# Altium footprint library TerminalBlock_TE-Connectivity.PcbLib: 11 footprints
Each footprint in its own frame and in the unit in brackets; x right, y up, seen from the top. Pads: shape width x height; smd on the part's side, far side on the other; paste and mask are expansions set on the pad; w line width, h text height; cw(c..) or ccw(c..) is an arc to the next point about the centre after c.
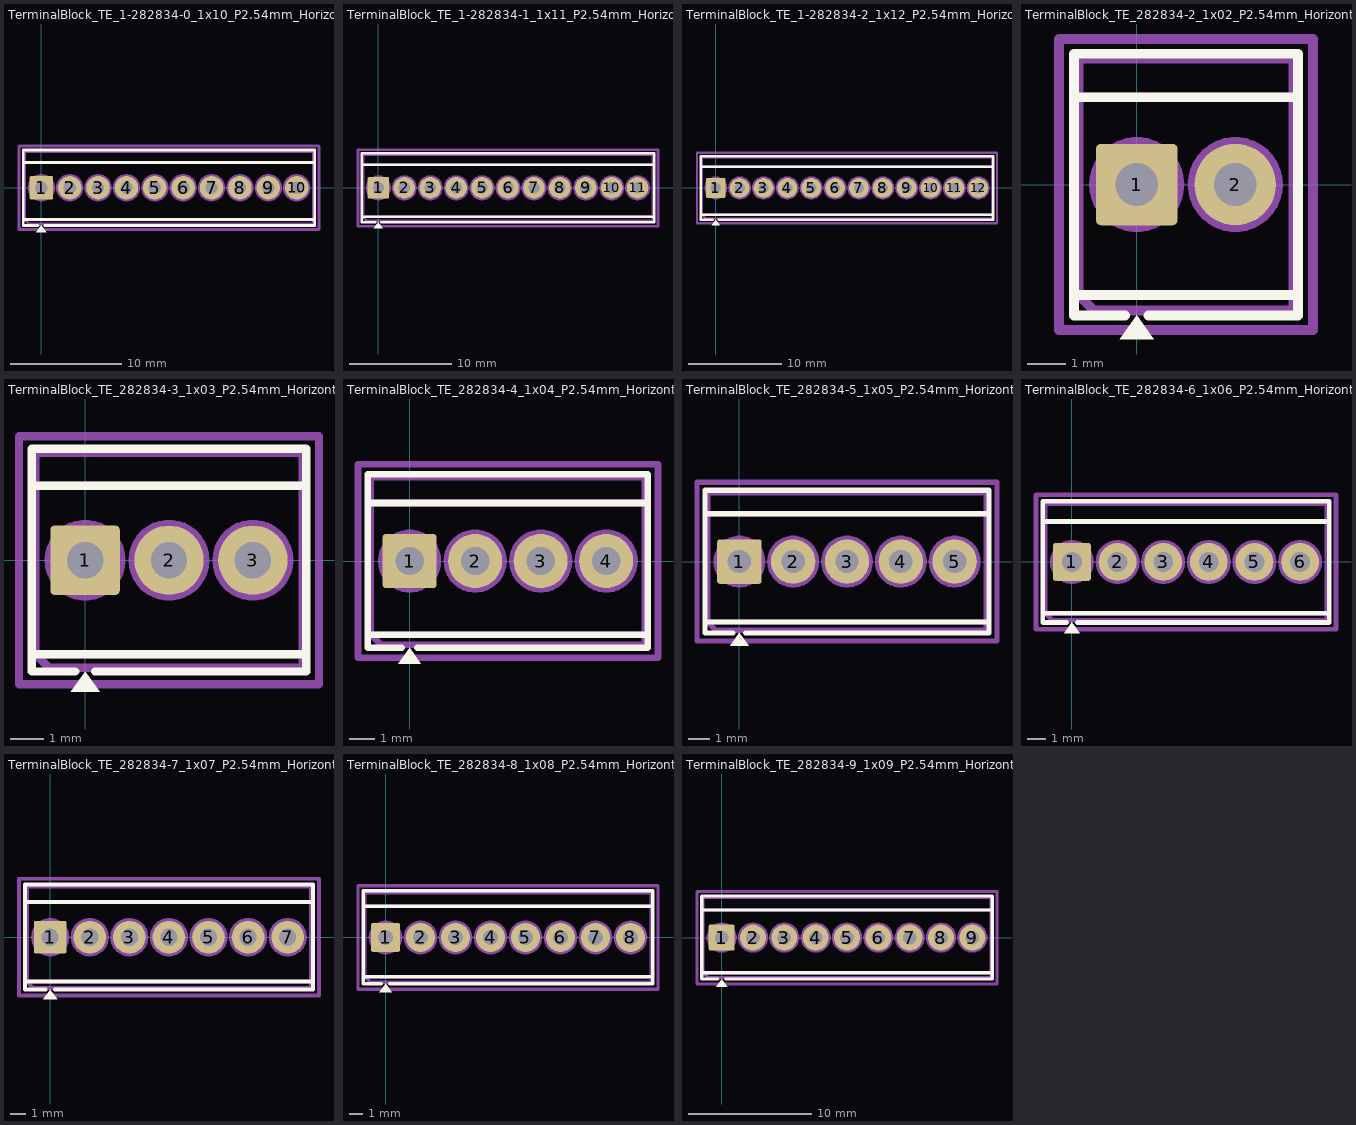
[diagram p0: the footprints below, top view; thin cyan lines are the x and y axes]

## TerminalBlock_TE_1-282834-0_1x10_P2.54mm_Horizontal [mm]
pads (10):
  rrect12% 2.1x2.1 hole 1.1: 1(0,0)
  round 2.1 hole 1.1: 2(2.54,0) 3(5.08,0) 4(7.62,0) 5(10.16,0) 6(12.7,0) 7(15.24,0) 8(17.78,0) 9(20.32,0) 10(22.86,0)
F.SilkS:
  region: 0.44,-3.98 -0.44,-3.98 0,-3.37
  lines w0.254: -1.62,-2.85 24.48,-2.85 ; -1.62,2.25 24.48,2.25 ; -0.3,-3.37 -1.62,-3.37 -1.62,3.37 24.48,3.37 24.48,-3.37 0.3,-3.37
F.Fab:
  circle w0.254: c0,0 r1.1
  circle w0.254: c2.54,0 r1.1
  circle w0.254: c5.08,0 r1.1
  circle w0.254: c7.62,0 r1.1
  circle w0.254: c10.16,0 r1.1
  circle w0.254: c12.7,0 r1.1
  circle w0.254: c15.24,0 r1.1
  circle w0.254: c17.78,0 r1.1
  circle w0.254: c20.32,0 r1.1
  circle w0.254: c22.86,0 r1.1
  lines w0.254: -1.5,2.25 24.36,2.25 ; -0.834,-0.7 0.7,0.834 ; -0.7,-0.834 0.834,0.7 ; 1.706,-0.7 3.24,0.834 ; 1.84,-0.834 3.374,0.7 ; 4.246,-0.7 5.78,0.834 ; 4.38,-0.834 5.914,0.7 ; 6.786,-0.7 8.32,0.834 ; 6.92,-0.834 8.454,0.7 ; 9.326,-0.7 10.86,0.834 ; 9.46,-0.834 10.994,0.7 ; 11.866,-0.7 13.4,0.834 ; 12,-0.834 13.534,0.7 ; 14.406,-0.7 15.94,0.834 ; 14.54,-0.834 16.074,0.7 ; 16.946,-0.7 18.48,0.834 ; 17.08,-0.834 18.614,0.7 ; 19.486,-0.7 21.02,0.834 ; 19.62,-0.834 21.154,0.7 ; 22.026,-0.7 23.56,0.834 ; 22.16,-0.834 23.694,0.7 ; 24.36,-2.85 -1.5,-2.85 ; -1.5,-2.85 -1.5,3.25 24.36,3.25 24.36,-3.25 -1.1,-3.25 -1.5,-2.85
  text "'.Designator'" at 7.383,-2.84 h1
F.CrtYd:
  lines w0.254: -2,-3.75 -2,3.75 24.86,3.75 24.86,-3.75 -2,-3.75

## TerminalBlock_TE_1-282834-1_1x11_P2.54mm_Horizontal [mm]
pads (11):
  rrect12% 2.1x2.1 hole 1.1: 1(0,0)
  round 2.1 hole 1.1: 2(2.54,0) 3(5.08,0) 4(7.62,0) 5(10.16,0) 6(12.7,0) 7(15.24,0) 8(17.78,0) 9(20.32,0) 10(22.86,0) 11(25.4,0)
F.SilkS:
  region: 0.44,-3.98 -0.44,-3.98 0,-3.37
  lines w0.254: -1.62,-2.85 27.02,-2.85 ; -1.62,2.25 27.02,2.25 ; -0.3,-3.37 -1.62,-3.37 -1.62,3.37 27.02,3.37 27.02,-3.37 0.3,-3.37
F.Fab:
  circle w0.254: c0,0 r1.1
  circle w0.254: c2.54,0 r1.1
  circle w0.254: c5.08,0 r1.1
  circle w0.254: c7.62,0 r1.1
  circle w0.254: c10.16,0 r1.1
  circle w0.254: c12.7,0 r1.1
  circle w0.254: c15.24,0 r1.1
  circle w0.254: c17.78,0 r1.1
  circle w0.254: c20.32,0 r1.1
  circle w0.254: c22.86,0 r1.1
  circle w0.254: c25.4,0 r1.1
  lines w0.254: -1.5,2.25 26.9,2.25 ; -0.834,-0.7 0.7,0.834 ; -0.7,-0.834 0.834,0.7 ; 1.706,-0.7 3.24,0.834 ; 1.84,-0.834 3.374,0.7 ; 4.246,-0.7 5.78,0.834 ; 4.38,-0.834 5.914,0.7 ; 6.786,-0.7 8.32,0.834 ; 6.92,-0.834 8.454,0.7 ; 9.326,-0.7 10.86,0.834 ; 9.46,-0.834 10.994,0.7 ; 11.866,-0.7 13.4,0.834 ; 12,-0.834 13.534,0.7 ; 14.406,-0.7 15.94,0.834 ; 14.54,-0.834 16.074,0.7 ; 16.946,-0.7 18.48,0.834 ; 17.08,-0.834 18.614,0.7 ; 19.486,-0.7 21.02,0.834 ; 19.62,-0.834 21.154,0.7 ; 22.026,-0.7 23.56,0.834 ; 22.16,-0.834 23.694,0.7 ; 24.566,-0.7 26.1,0.834 ; 24.7,-0.834 26.234,0.7 ; 26.9,-2.85 -1.5,-2.85 ; -1.5,-2.85 -1.5,3.25 26.9,3.25 26.9,-3.25 -1.1,-3.25 -1.5,-2.85
  text "'.Designator'" at 8.653,-2.84 h1
F.CrtYd:
  lines w0.254: -2,-3.75 -2,3.75 27.4,3.75 27.4,-3.75 -2,-3.75

## TerminalBlock_TE_1-282834-2_1x12_P2.54mm_Horizontal [mm]
pads (12):
  rrect12% 2.1x2.1 hole 1.1: 1(0,0)
  round 2.1 hole 1.1: 2(2.54,0) 3(5.08,0) 4(7.62,0) 5(10.16,0) 6(12.7,0) 7(15.24,0) 8(17.78,0) 9(20.32,0) 10(22.86,0) 11(25.4,0) 12(27.94,0)
F.SilkS:
  region: 0.44,-3.98 -0.44,-3.98 0,-3.37
  lines w0.254: -1.62,-2.85 29.56,-2.85 ; -1.62,2.25 29.56,2.25 ; -0.3,-3.37 -1.62,-3.37 -1.62,3.37 29.56,3.37 29.56,-3.37 0.3,-3.37
F.Fab:
  circle w0.254: c0,0 r1.1
  circle w0.254: c2.54,0 r1.1
  circle w0.254: c5.08,0 r1.1
  circle w0.254: c7.62,0 r1.1
  circle w0.254: c10.16,0 r1.1
  circle w0.254: c12.7,0 r1.1
  circle w0.254: c15.24,0 r1.1
  circle w0.254: c17.78,0 r1.1
  circle w0.254: c20.32,0 r1.1
  circle w0.254: c22.86,0 r1.1
  circle w0.254: c25.4,0 r1.1
  circle w0.254: c27.94,0 r1.1
  lines w0.254: -1.5,2.25 29.44,2.25 ; -0.834,-0.7 0.7,0.834 ; -0.7,-0.834 0.834,0.7 ; 1.706,-0.7 3.24,0.834 ; 1.84,-0.834 3.374,0.7 ; 4.246,-0.7 5.78,0.834 ; 4.38,-0.834 5.914,0.7 ; 6.786,-0.7 8.32,0.834 ; 6.92,-0.834 8.454,0.7 ; 9.326,-0.7 10.86,0.834 ; 9.46,-0.834 10.994,0.7 ; 11.866,-0.7 13.4,0.834 ; 12,-0.834 13.534,0.7 ; 14.406,-0.7 15.94,0.834 ; 14.54,-0.834 16.074,0.7 ; 16.946,-0.7 18.48,0.834 ; 17.08,-0.834 18.614,0.7 ; 19.486,-0.7 21.02,0.834 ; 19.62,-0.834 21.154,0.7 ; 22.026,-0.7 23.56,0.834 ; 22.16,-0.834 23.694,0.7 ; 24.566,-0.7 26.1,0.834 ; 24.7,-0.834 26.234,0.7 ; 27.106,-0.7 28.64,0.834 ; 27.24,-0.834 28.774,0.7 ; 29.44,-2.85 -1.5,-2.85 ; -1.5,-2.85 -1.5,3.25 29.44,3.25 29.44,-3.25 -1.1,-3.25 -1.5,-2.85
  text "'.Designator'" at 9.923,-2.84 h1
F.CrtYd:
  lines w0.254: -2,-3.75 -2,3.75 29.94,3.75 29.94,-3.75 -2,-3.75

## TerminalBlock_TE_282834-2_1x02_P2.54mm_Horizontal [mm]
pads (2):
  rrect12% 2.1x2.1 hole 1.1: 1(0,0)
  round 2.1 hole 1.1: 2(2.54,0)
F.SilkS:
  region: 0.44,-3.98 -0.44,-3.98 0,-3.37
  lines w0.254: -1.62,-2.85 4.16,-2.85 ; -1.62,2.25 4.16,2.25 ; -0.3,-3.37 -1.62,-3.37 -1.62,3.37 4.16,3.37 4.16,-3.37 0.3,-3.37
F.Fab:
  circle w0.254: c0,0 r1.1
  circle w0.254: c2.54,0 r1.1
  lines w0.254: -1.5,2.25 4.04,2.25 ; -0.834,-0.7 0.7,0.834 ; -0.7,-0.834 0.834,0.7 ; 1.706,-0.7 3.24,0.834 ; 1.84,-0.834 3.374,0.7 ; 4.04,-2.85 -1.5,-2.85 ; -1.5,-2.85 -1.5,3.25 4.04,3.25 4.04,-3.25 -1.1,-3.25 -1.5,-2.85
  text "'.Designator'" at -2.777,-2.84 h1
F.CrtYd:
  lines w0.254: -2,-3.75 -2,3.75 4.54,3.75 4.54,-3.75 -2,-3.75

## TerminalBlock_TE_282834-3_1x03_P2.54mm_Horizontal [mm]
pads (3):
  rrect12% 2.1x2.1 hole 1.1: 1(0,0)
  round 2.1 hole 1.1: 2(2.54,0) 3(5.08,0)
F.SilkS:
  region: 0.44,-3.98 -0.44,-3.98 0,-3.37
  lines w0.254: -1.62,-2.85 6.7,-2.85 ; -1.62,2.25 6.7,2.25 ; -0.3,-3.37 -1.62,-3.37 -1.62,3.37 6.7,3.37 6.7,-3.37 0.3,-3.37
F.Fab:
  circle w0.254: c0,0 r1.1
  circle w0.254: c2.54,0 r1.1
  circle w0.254: c5.08,0 r1.1
  lines w0.254: -1.5,2.25 6.58,2.25 ; -0.834,-0.7 0.7,0.834 ; -0.7,-0.834 0.834,0.7 ; 1.706,-0.7 3.24,0.834 ; 1.84,-0.834 3.374,0.7 ; 4.246,-0.7 5.78,0.834 ; 4.38,-0.834 5.914,0.7 ; 6.58,-2.85 -1.5,-2.85 ; -1.5,-2.85 -1.5,3.25 6.58,3.25 6.58,-3.25 -1.1,-3.25 -1.5,-2.85
  text "'.Designator'" at -1.507,-2.84 h1
F.CrtYd:
  lines w0.254: -2,-3.75 -2,3.75 7.08,3.75 7.08,-3.75 -2,-3.75

## TerminalBlock_TE_282834-4_1x04_P2.54mm_Horizontal [mm]
pads (4):
  rrect12% 2.1x2.1 hole 1.1: 1(0,0)
  round 2.1 hole 1.1: 2(2.54,0) 3(5.08,0) 4(7.62,0)
F.SilkS:
  region: 0.44,-3.98 -0.44,-3.98 0,-3.37
  lines w0.254: -1.62,-2.85 9.24,-2.85 ; -1.62,2.25 9.24,2.25 ; -0.3,-3.37 -1.62,-3.37 -1.62,3.37 9.24,3.37 9.24,-3.37 0.3,-3.37
F.Fab:
  circle w0.254: c0,0 r1.1
  circle w0.254: c2.54,0 r1.1
  circle w0.254: c5.08,0 r1.1
  circle w0.254: c7.62,0 r1.1
  lines w0.254: -1.5,2.25 9.12,2.25 ; -0.834,-0.7 0.7,0.834 ; -0.7,-0.834 0.834,0.7 ; 1.706,-0.7 3.24,0.834 ; 1.84,-0.834 3.374,0.7 ; 4.246,-0.7 5.78,0.834 ; 4.38,-0.834 5.914,0.7 ; 6.786,-0.7 8.32,0.834 ; 6.92,-0.834 8.454,0.7 ; 9.12,-2.85 -1.5,-2.85 ; -1.5,-2.85 -1.5,3.25 9.12,3.25 9.12,-3.25 -1.1,-3.25 -1.5,-2.85
  text "'.Designator'" at -0.237,-2.84 h1
F.CrtYd:
  lines w0.254: -2,-3.75 -2,3.75 9.63,3.75 9.63,-3.75 -2,-3.75

## TerminalBlock_TE_282834-5_1x05_P2.54mm_Horizontal [mm]
pads (5):
  rrect12% 2.1x2.1 hole 1.1: 1(0,0)
  round 2.1 hole 1.1: 2(2.54,0) 3(5.08,0) 4(7.62,0) 5(10.16,0)
F.SilkS:
  region: 0.44,-3.98 -0.44,-3.98 0,-3.37
  lines w0.254: -1.62,-2.85 11.78,-2.85 ; -1.62,2.25 11.78,2.25 ; -0.3,-3.37 -1.62,-3.37 -1.62,3.37 11.78,3.37 11.78,-3.37 0.3,-3.37
F.Fab:
  circle w0.254: c0,0 r1.1
  circle w0.254: c2.54,0 r1.1
  circle w0.254: c5.08,0 r1.1
  circle w0.254: c7.62,0 r1.1
  circle w0.254: c10.16,0 r1.1
  lines w0.254: -1.5,2.25 11.66,2.25 ; -0.834,-0.7 0.7,0.834 ; -0.7,-0.834 0.834,0.7 ; 1.706,-0.7 3.24,0.834 ; 1.84,-0.834 3.374,0.7 ; 4.246,-0.7 5.78,0.834 ; 4.38,-0.834 5.914,0.7 ; 6.786,-0.7 8.32,0.834 ; 6.92,-0.834 8.454,0.7 ; 9.326,-0.7 10.86,0.834 ; 9.46,-0.834 10.994,0.7 ; 11.66,-2.85 -1.5,-2.85 ; -1.5,-2.85 -1.5,3.25 11.66,3.25 11.66,-3.25 -1.1,-3.25 -1.5,-2.85
  text "'.Designator'" at 1.033,-2.84 h1
F.CrtYd:
  lines w0.254: -2,-3.75 -2,3.75 12.16,3.75 12.16,-3.75 -2,-3.75

## TerminalBlock_TE_282834-6_1x06_P2.54mm_Horizontal [mm]
pads (6):
  rrect12% 2.1x2.1 hole 1.1: 1(0,0)
  round 2.1 hole 1.1: 2(2.54,0) 3(5.08,0) 4(7.62,0) 5(10.16,0) 6(12.7,0)
F.SilkS:
  region: 0.44,-3.98 -0.44,-3.98 0,-3.37
  lines w0.254: -1.62,-2.85 14.32,-2.85 ; -1.62,2.25 14.32,2.25 ; -0.3,-3.37 -1.62,-3.37 -1.62,3.37 14.32,3.37 14.32,-3.37 0.3,-3.37
F.Fab:
  circle w0.254: c0,0 r1.1
  circle w0.254: c2.54,0 r1.1
  circle w0.254: c5.08,0 r1.1
  circle w0.254: c7.62,0 r1.1
  circle w0.254: c10.16,0 r1.1
  circle w0.254: c12.7,0 r1.1
  lines w0.254: -1.5,2.25 14.2,2.25 ; -0.834,-0.7 0.7,0.834 ; -0.7,-0.834 0.834,0.7 ; 1.706,-0.7 3.24,0.834 ; 1.84,-0.834 3.374,0.7 ; 4.246,-0.7 5.78,0.834 ; 4.38,-0.834 5.914,0.7 ; 6.786,-0.7 8.32,0.834 ; 6.92,-0.834 8.454,0.7 ; 9.326,-0.7 10.86,0.834 ; 9.46,-0.834 10.994,0.7 ; 11.866,-0.7 13.4,0.834 ; 12,-0.834 13.534,0.7 ; 14.2,-2.85 -1.5,-2.85 ; -1.5,-2.85 -1.5,3.25 14.2,3.25 14.2,-3.25 -1.1,-3.25 -1.5,-2.85
  text "'.Designator'" at 2.303,-2.84 h1
F.CrtYd:
  lines w0.254: -2,-3.75 -2,3.75 14.7,3.75 14.7,-3.75 -2,-3.75

## TerminalBlock_TE_282834-7_1x07_P2.54mm_Horizontal [mm]
pads (7):
  rrect12% 2.1x2.1 hole 1.1: 1(0,0)
  round 2.1 hole 1.1: 2(2.54,0) 3(5.08,0) 4(7.62,0) 5(10.16,0) 6(12.7,0) 7(15.24,0)
F.SilkS:
  region: 0.44,-3.98 -0.44,-3.98 0,-3.37
  lines w0.254: -1.62,-2.85 16.86,-2.85 ; -1.62,2.25 16.86,2.25 ; -0.3,-3.37 -1.62,-3.37 -1.62,3.37 16.86,3.37 16.86,-3.37 0.3,-3.37
F.Fab:
  circle w0.254: c0,0 r1.1
  circle w0.254: c2.54,0 r1.1
  circle w0.254: c5.08,0 r1.1
  circle w0.254: c7.62,0 r1.1
  circle w0.254: c10.16,0 r1.1
  circle w0.254: c12.7,0 r1.1
  circle w0.254: c15.24,0 r1.1
  lines w0.254: -1.5,2.25 16.74,2.25 ; -0.834,-0.7 0.7,0.834 ; -0.7,-0.834 0.834,0.7 ; 1.706,-0.7 3.24,0.834 ; 1.84,-0.834 3.374,0.7 ; 4.246,-0.7 5.78,0.834 ; 4.38,-0.834 5.914,0.7 ; 6.786,-0.7 8.32,0.834 ; 6.92,-0.834 8.454,0.7 ; 9.326,-0.7 10.86,0.834 ; 9.46,-0.834 10.994,0.7 ; 11.866,-0.7 13.4,0.834 ; 12,-0.834 13.534,0.7 ; 14.406,-0.7 15.94,0.834 ; 14.54,-0.834 16.074,0.7 ; 16.74,-2.85 -1.5,-2.85 ; -1.5,-2.85 -1.5,3.25 16.74,3.25 16.74,-3.25 -1.1,-3.25 -1.5,-2.85
  text "'.Designator'" at 3.573,-2.84 h1
F.CrtYd:
  lines w0.254: -2,-3.75 -2,3.75 17.25,3.75 17.25,-3.75 -2,-3.75

## TerminalBlock_TE_282834-8_1x08_P2.54mm_Horizontal [mm]
pads (8):
  rrect12% 2.1x2.1 hole 1.1: 1(0,0)
  round 2.1 hole 1.1: 2(2.54,0) 3(5.08,0) 4(7.62,0) 5(10.16,0) 6(12.7,0) 7(15.24,0) 8(17.78,0)
F.SilkS:
  region: 0.44,-3.98 -0.44,-3.98 0,-3.37
  lines w0.254: -1.62,-2.85 19.4,-2.85 ; -1.62,2.25 19.4,2.25 ; -0.3,-3.37 -1.62,-3.37 -1.62,3.37 19.4,3.37 19.4,-3.37 0.3,-3.37
F.Fab:
  circle w0.254: c0,0 r1.1
  circle w0.254: c2.54,0 r1.1
  circle w0.254: c5.08,0 r1.1
  circle w0.254: c7.62,0 r1.1
  circle w0.254: c10.16,0 r1.1
  circle w0.254: c12.7,0 r1.1
  circle w0.254: c15.24,0 r1.1
  circle w0.254: c17.78,0 r1.1
  lines w0.254: -1.5,2.25 19.28,2.25 ; -0.834,-0.7 0.7,0.834 ; -0.7,-0.834 0.834,0.7 ; 1.706,-0.7 3.24,0.834 ; 1.84,-0.834 3.374,0.7 ; 4.246,-0.7 5.78,0.834 ; 4.38,-0.834 5.914,0.7 ; 6.786,-0.7 8.32,0.834 ; 6.92,-0.834 8.454,0.7 ; 9.326,-0.7 10.86,0.834 ; 9.46,-0.834 10.994,0.7 ; 11.866,-0.7 13.4,0.834 ; 12,-0.834 13.534,0.7 ; 14.406,-0.7 15.94,0.834 ; 14.54,-0.834 16.074,0.7 ; 16.946,-0.7 18.48,0.834 ; 17.08,-0.834 18.614,0.7 ; 19.28,-2.85 -1.5,-2.85 ; -1.5,-2.85 -1.5,3.25 19.28,3.25 19.28,-3.25 -1.1,-3.25 -1.5,-2.85
  text "'.Designator'" at 4.843,-2.84 h1
F.CrtYd:
  lines w0.254: -2,-3.75 -2,3.75 19.78,3.75 19.78,-3.75 -2,-3.75

## TerminalBlock_TE_282834-9_1x09_P2.54mm_Horizontal [mm]
pads (9):
  rrect12% 2.1x2.1 hole 1.1: 1(0,0)
  round 2.1 hole 1.1: 2(2.54,0) 3(5.08,0) 4(7.62,0) 5(10.16,0) 6(12.7,0) 7(15.24,0) 8(17.78,0) 9(20.32,0)
F.SilkS:
  region: 0.44,-3.98 -0.44,-3.98 0,-3.37
  lines w0.254: -1.62,-2.85 21.94,-2.85 ; -1.62,2.25 21.94,2.25 ; -0.3,-3.37 -1.62,-3.37 -1.62,3.37 21.94,3.37 21.94,-3.37 0.3,-3.37
F.Fab:
  circle w0.254: c0,0 r1.1
  circle w0.254: c2.54,0 r1.1
  circle w0.254: c5.08,0 r1.1
  circle w0.254: c7.62,0 r1.1
  circle w0.254: c10.16,0 r1.1
  circle w0.254: c12.7,0 r1.1
  circle w0.254: c15.24,0 r1.1
  circle w0.254: c17.78,0 r1.1
  circle w0.254: c20.32,0 r1.1
  lines w0.254: -1.5,2.25 21.82,2.25 ; -0.834,-0.7 0.7,0.834 ; -0.7,-0.834 0.834,0.7 ; 1.706,-0.7 3.24,0.834 ; 1.84,-0.834 3.374,0.7 ; 4.246,-0.7 5.78,0.834 ; 4.38,-0.834 5.914,0.7 ; 6.786,-0.7 8.32,0.834 ; 6.92,-0.834 8.454,0.7 ; 9.326,-0.7 10.86,0.834 ; 9.46,-0.834 10.994,0.7 ; 11.866,-0.7 13.4,0.834 ; 12,-0.834 13.534,0.7 ; 14.406,-0.7 15.94,0.834 ; 14.54,-0.834 16.074,0.7 ; 16.946,-0.7 18.48,0.834 ; 17.08,-0.834 18.614,0.7 ; 19.486,-0.7 21.02,0.834 ; 19.62,-0.834 21.154,0.7 ; 21.82,-2.85 -1.5,-2.85 ; -1.5,-2.85 -1.5,3.25 21.82,3.25 21.82,-3.25 -1.1,-3.25 -1.5,-2.85
  text "'.Designator'" at 6.113,-2.84 h1
F.CrtYd:
  lines w0.254: -2,-3.75 -2,3.75 22.32,3.75 22.32,-3.75 -2,-3.75